# Altium footprint library PCON2-S.PcbLib: 1 footprints
Each footprint in its own frame and in the unit in brackets; x right, y up, seen from the top. Pads: shape width x height; smd on the part's side, far side on the other; paste and mask are expansions set on the pad; w line width, h text height; cw(c..) or ccw(c..) is an arc to the next point about the centre after c.
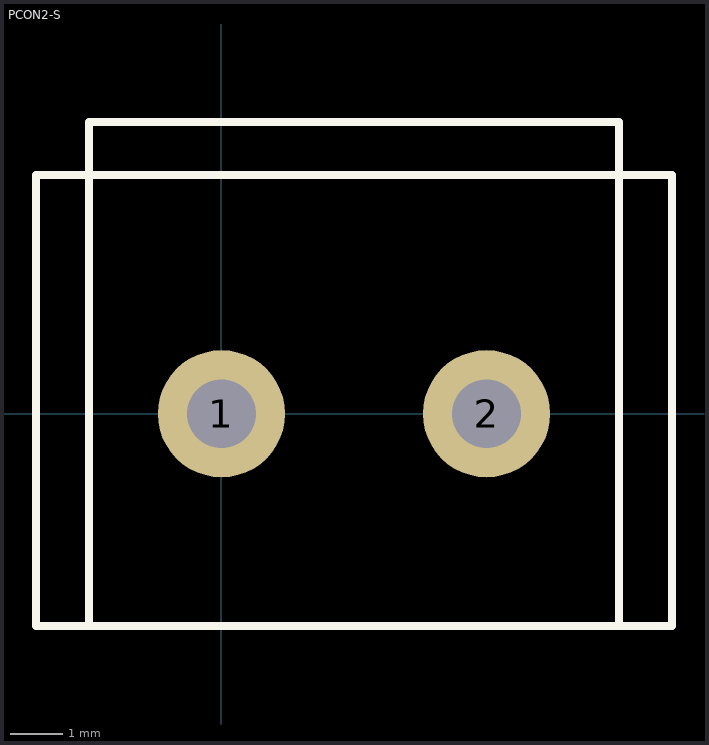
[diagram p0: the footprint, top view; thin cyan lines are the x and y axes]

## PCON2-S [mil]
pads (2):
  round 96 hole 52: 1(0,0) 2(200,0)
Top Overlay:
  lines w6: -100,-160 -100,220 300,220 300,-160 ; -140,-160 340,-160 340,180 -140,180 -140,-160